# EAGLE library part INA132 (library DAC)
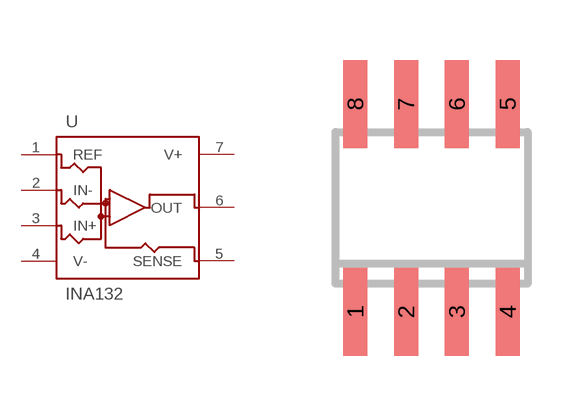
[diagram p36: symbol with the pads of SOIC8; footprint SOIC8]

Designator prefix U

## INA132  [SOIC8]
1  REF
2  IN-
3  IN+
4  V-  sup
5  SENSE
6  OUT
7  V+  pwr

## Footprint SOIC8 (pad centres in mm)
smd 0.6 x 2.2: 1 -1.905,-2.6; 2 -0.635,-2.6; 3 0.635,-2.6; 4 1.905,-2.6; 5 1.905,2.6; 6 0.635,2.6; 7 -0.635,2.6; 8 -1.905,2.6